# EAGLE library part B9B-PH (library con-JST PH)
JST PH series header 2.00mm pitch disconnectable crimp style connectors, vertical (side entry type), 9 pins
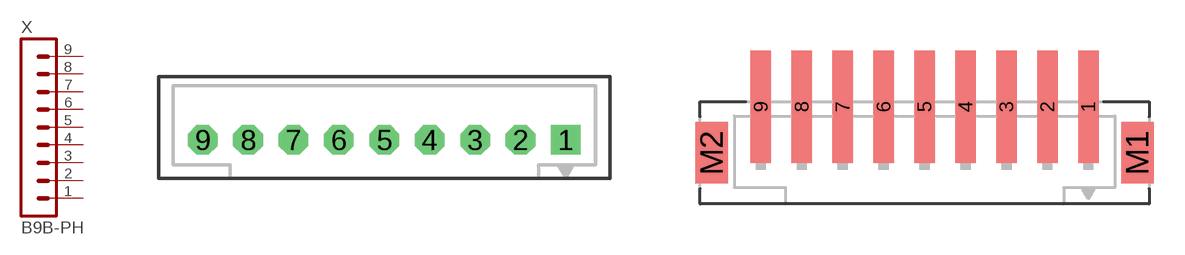
[diagram p3: symbol with the pads of B9B-PH-K-S; footprints B9B-PH-K-S, B9B-PH-SM4-TB]

Designator prefix X

## B9B-PH-K-S  [B9B-PH-K-S]
1  1  pas
2  2  pas
3  3  pas
4  4  pas
5  5  pas
6  6  pas
7  7  pas
8  8  pas
9  9  pas

## B9B-PH-KL  [B9B-PH-K-S]
Pads as for B9B-PH-K-S

## B9B-PH-SM4-TB  [B9B-PH-SM4-TB]
Pads as for B9B-PH-K-S

## Footprint B9B-PH-K-S (pad centres in mm)
JST PH series header 2.00mm pitch disconnectable crimp style connectors, through-hole vertical (top entry type), 9 pins
drill 0.7 pad 1.3 square: 1 8,0
drill 0.7 pad 1.3 octagon: 2 6,0; 3 4,0; 4 2,0; 5 0,0; 6 -2,0; 7 -4,0; 8 -6,0; 9 -8,0

## Footprint B9B-PH-SM4-TB (pad centres in mm)
JST PH series header 2.00mm pitch disconnectable crimp style connectors, SMT vertical (top entry type), 9 pins
smd 1 x 5.5: 1 8,0; 2 6,0; 3 4,0; 4 2,0; 5 0,0; 6 -2,0; 7 -4,0; 8 -6,0; 9 -8,0
smd 1.6 x 3: M1 10.4,-2.25; M2 -10.4,-2.25